# EAGLE library part MMA8453QR1 (library fillament-winder)
Accelerometer Triple ±2g/±4g/±8g 3.3V 16-Pin QFN T/R
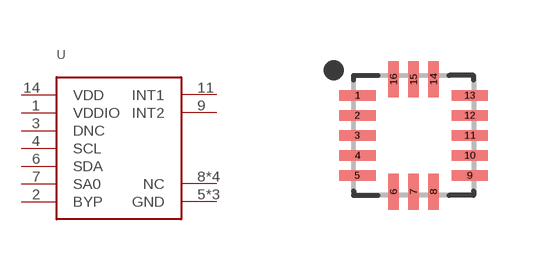
[diagram p1: symbol with the pads of 16QFN; footprint 16QFN]

Designator prefix U

## MMA8453QR116QFN  [16QFN]
1  VDDIO
2  BYP
3  DNC  nc
4  SCL
5  GND
6  SDA
7  SA0
8  NC  nc
9  INT2
10  GND
11  INT1
12  GND
13  NC  nc
14  VDD
15  NC  nc
16  NC  nc

## Footprint 16QFN (pad centres in mm)
16-QFN, 0.50 mm pitch, 3.00 X 3.00 X 1.00 mm body 16-pin QFN package with 0.50 mm pitch with body size 3.00 X 3.00 X 1.00 mm
smd 0.904 x 0.264: 1 -1.404,1; 2 -1.404,0.5; 3 -1.404,0; 4 -1.404,-0.5; 5 -1.404,-1; 9 1.404,-1; 10 1.404,-0.5; 11 1.404,0; 12 1.404,0.5; 13 1.404,1
smd 0.264 x 0.904: 6 -0.5,-1.404; 7 0,-1.404; 8 0.5,-1.404; 14 0.5,1.404; 15 0,1.404; 16 -0.5,1.404